# EAGLE library part ADA4665 (library SSI)
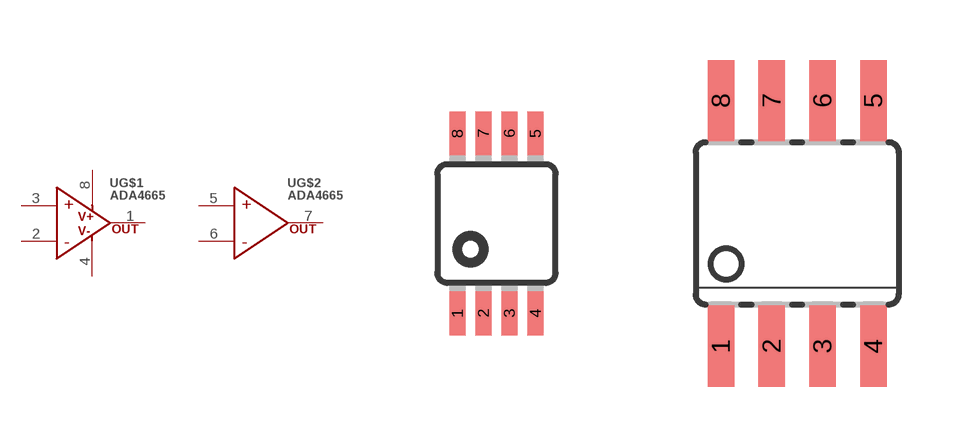
[diagram p31: symbol with the pads of MSOP-8; footprints MSOP-8, SOIC08]

Designator prefix -; gates G$1=ADA4665 G$2=ADA4665-2

## ADA4665MSOP  [MSOP-8]
1  G$1:OUT1
2  G$1:IN-1
3  G$1:IN+1
4  G$1:V-
5  G$2:IN+2
6  G$2:IN-2
7  G$2:OUT2
8  G$1:V+

## ADA4665SOIC  [SOIC08]
Pads as for MSOP-8

## Footprint MSOP-8 (pad centres in mm)
smd 0.4 x 1.1: 1 -0.975,-2.25; 2 -0.325,-2.25; 3 0.325,-2.25; 4 0.975,-2.25; 5 0.975,2.25; 6 0.325,2.25; 7 -0.325,2.25; 8 -0.975,2.25

## Footprint SOIC08 (pad centres in mm)
Small Outline Package
smd 0.66 x 2.032: 1 -1.905,-3.073; 2 -0.635,-3.073; 3 0.635,-3.073; 4 1.905,-3.073; 5 1.905,3.073; 6 0.635,3.073; 7 -0.635,3.073; 8 -1.905,3.073